# Altium footprint library PCB - POWER MODULE - RECOM RAC05-K.PCBLIB: 1 footprints
Each footprint in its own frame and in the unit in brackets; x right, y up, seen from the top. Pads: shape width x height; smd on the part's side, far side on the other; paste and mask are expansions set on the pad; w line width, h text height; cw(c..) or ccw(c..) is an arc to the next point about the centre after c.
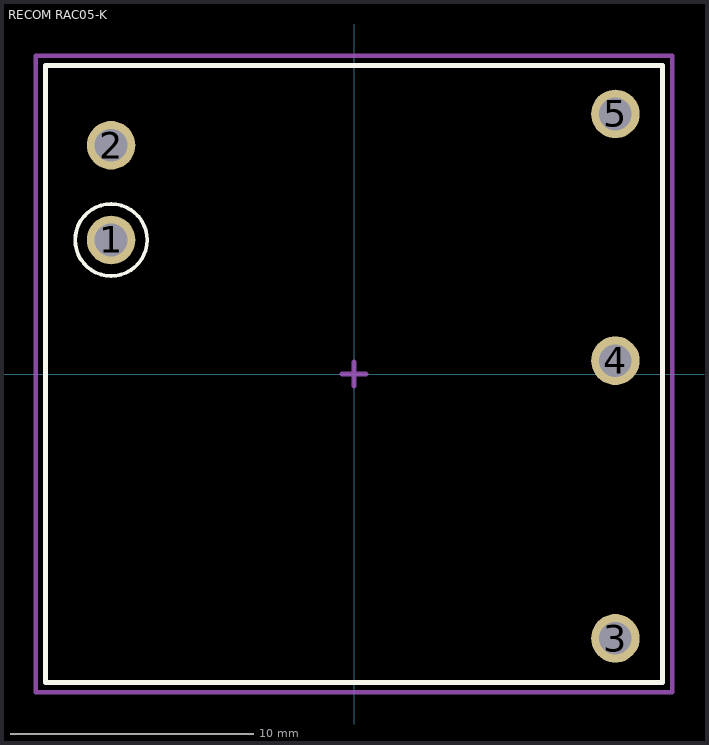
[diagram p0: the footprint, top view; thin cyan lines are the x and y axes]

## RECOM RAC05-K [mm]
height 17.2
pads (5):
  round 2 hole 1.35 paste+0: 1(-10,5.518) 2(-10,9.418) 3(10.76,-10.882) 4(10.76,0.548) 5(10.76,10.708)
Top Overlay:
  circle w0.15: c-10,5.518 r1.482
  lines w0.2: -12.7,-12.7 12.7,-12.7 12.7,12.7 -12.7,12.7 -12.7,-12.7
Top Component Center:
  lines w0.2: -0.5,0 0.5,0 ; 0,-0.5 0,0.5
Top Component Outline:
  lines w0.2: -12.7,-12.7 12.7,-12.7 12.7,12.7 -12.7,12.7 -12.7,-12.7
Top Courtyard (Mech15):
  lines w0.2: -13.1,-13.1 13.1,-13.1 13.1,13.1 -13.1,13.1 -13.1,-13.1
3D body "RECOM RAC05-K.step": height 16.6, standoff -2.53, extent -12.8,-12.8 12.8,12.8